# Altium footprint library SODFL2513X70N.PcbLib: 1 footprints
Each footprint in its own frame and in the unit in brackets; x right, y up, seen from the top. Pads: shape width x height; smd on the part's side, far side on the other; paste and mask are expansions set on the pad; w line width, h text height; cw(c..) or ccw(c..) is an arc to the next point about the centre after c.
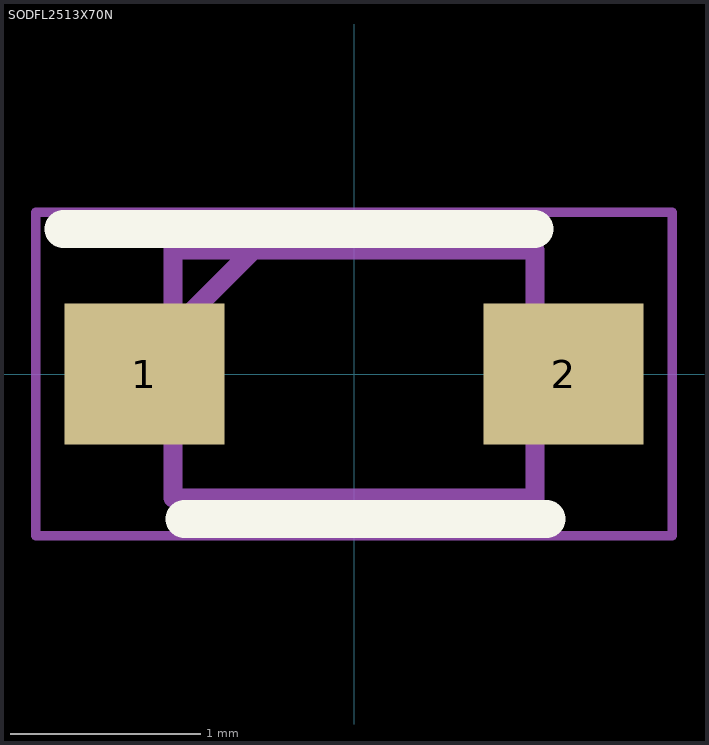
[diagram p0: the footprint, top view; thin cyan lines are the x and y axes]

## SODFL2513X70N [mm]
pads (2):
  rect 0.84x0.74 smd: 1(-1.1,0) 2(1.1,0)
Top Overlay:
  lines w0.2: -1.524,0.762 0.946,0.762 ; -0.889,-0.762 1.011,-0.762
Mechanical 15:
  lines w0.1: -0.95,0.23 -0.53,0.65 ; -0.95,-0.65 -0.95,0.65 0.95,0.65 0.95,-0.65 -0.95,-0.65
Mechanical 20:
  lines w0.05: -1.67,-0.85 -1.67,0.85 1.67,0.85 1.67,-0.85 -1.67,-0.85